# Altium schematic symbol library SCH - MCU - NUVOTON - NUVOTON M262ZIAAE.SchLib: 1 symbol
Pins are listed as number, name and electrical type; pins without a type are passive.

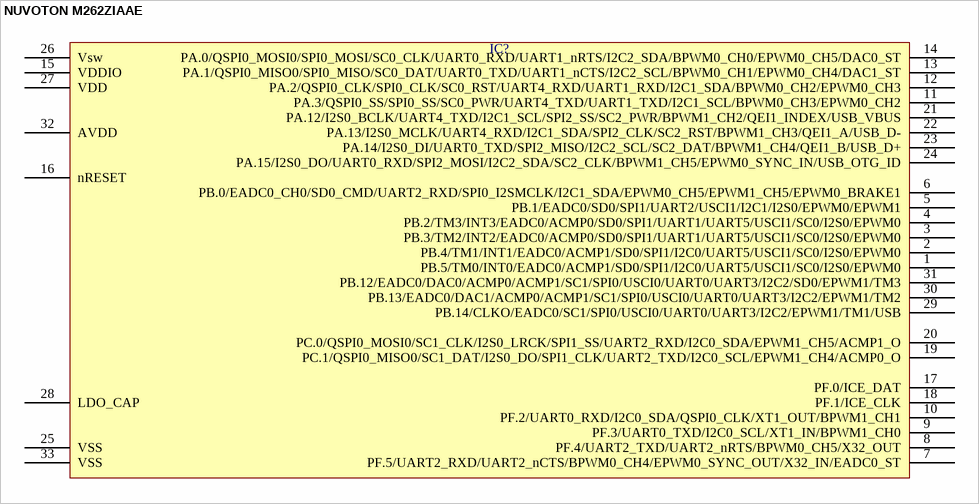
[diagram p0: symbol NUVOTON M262ZIAAE]

## NUVOTON M262ZIAAE
designator IC?  (value not drawn)
pins: 1 PB.5/TM0/INT0/EADC0/ACMP1/SD0/SPI1/I2C0/UART5/USCI1/SC0/I2S0/EPWM0, 2 PB.4/TM1/INT1/EADC0/ACMP1/SD0/SPI1/I2C0/UART5/USCI1/SC0/I2S0/EPWM0, 3 PB.3/TM2/INT2/EADC0/ACMP0/SD0/SPI1/UART1/UART5/USCI1/SC0/I2S0/EPWM0, 4 PB.2/TM3/INT3/EADC0/ACMP0/SD0/SPI1/UART1/UART5/USCI1/SC0/I2S0/EPWM0, 5 PB.1/EADC0/SD0/SPI1/UART2/USCI1/I2C1/I2S0/EPWM0/EPWM1, 6 PB.0/EADC0_CH0/SD0_CMD/UART2_RXD/SPI0_I2SMCLK/I2C1_SDA/EPWM0_CH5/EPWM1_CH5/EPWM0_BRAKE1, 7 PF.5/UART2_RXD/UART2_nCTS/BPWM0_CH4/EPWM0_SYNC_OUT/X32_IN/EADC0_ST, 8 PF.4/UART2_TXD/UART2_nRTS/BPWM0_CH5/X32_OUT, 9 PF.3/UART0_TXD/I2C0_SCL/XT1_IN/BPWM1_CH0, 10 PF.2/UART0_RXD/I2C0_SDA/QSPI0_CLK/XT1_OUT/BPWM1_CH1, 11 PA.3/QSPI0_SS/SPI0_SS/SC0_PWR/UART4_TXD/UART1_TXD/I2C1_SCL/BPWM0_CH3/EPWM0_CH2, 12 PA.2/QSPI0_CLK/SPI0_CLK/SC0_RST/UART4_RXD/UART1_RXD/I2C1_SDA/BPWM0_CH2/EPWM0_CH3, 13 PA.1/QSPI0_MISO0/SPI0_MISO/SC0_DAT/UART0_TXD/UART1_nCTS/I2C2_SCL/BPWM0_CH1/EPWM0_CH4/DAC1_ST, 14 PA.0/QSPI0_MOSI0/SPI0_MOSI/SC0_CLK/UART0_RXD/UART1_nRTS/I2C2_SDA/BPWM0_CH0/EPWM0_CH5/DAC0_ST, 15 VDDIO, 16 nRESET, 17 PF.0/ICE_DAT, 18 PF.1/ICE_CLK, 19 PC.1/QSPI0_MISO0/SC1_DAT/I2S0_DO/SPI1_CLK/UART2_TXD/I2C0_SCL/EPWM1_CH4/ACMP0_O, 20 PC.0/QSPI0_MOSI0/SC1_CLK/I2S0_LRCK/SPI1_SS/UART2_RXD/I2C0_SDA/EPWM1_CH5/ACMP1_O, 21 PA.12/I2S0_BCLK/UART4_TXD/I2C1_SCL/SPI2_SS/SC2_PWR/BPWM1_CH2/QEI1_INDEX/USB_VBUS, 22 PA.13/I2S0_MCLK/UART4_RXD/I2C1_SDA/SPI2_CLK/SC2_RST/BPWM1_CH3/QEI1_A/USB_D-, 23 PA.14/I2S0_DI/UART0_TXD/SPI2_MISO/I2C2_SCL/SC2_DAT/BPWM1_CH4/QEI1_B/USB_D+, 24 PA.15/I2S0_DO/UART0_RXD/SPI2_MOSI/I2C2_SDA/SC2_CLK/BPWM1_CH5/EPWM0_SYNC_IN/USB_OTG_ID, 25 VSS, 26 Vsw, 27 VDD, 28 LDO_CAP, 29 PB.14/CLKO/EADC0/SC1/SPI0/USCI0/UART0/UART3/I2C2/EPWM1/TM1/USB, 30 PB.13/EADC0/DAC1/ACMP0/ACMP1/SC1/SPI0/USCI0/UART0/UART3/I2C2/EPWM1/TM2, 31 PB.12/EADC0/DAC0/ACMP0/ACMP1/SC1/SPI0/USCI0/UART0/UART3/I2C2/SD0/EPWM1/TM3, 32 AVDD, 33 VSS